# EAGLE library part PL2303TA (library PL2303TA)
USB to Serial Bridge Controller Source: Datasheet <https://cdn-shop.adafruit.com/datasheets/DS_PL2303TA_d20120504.pdf>
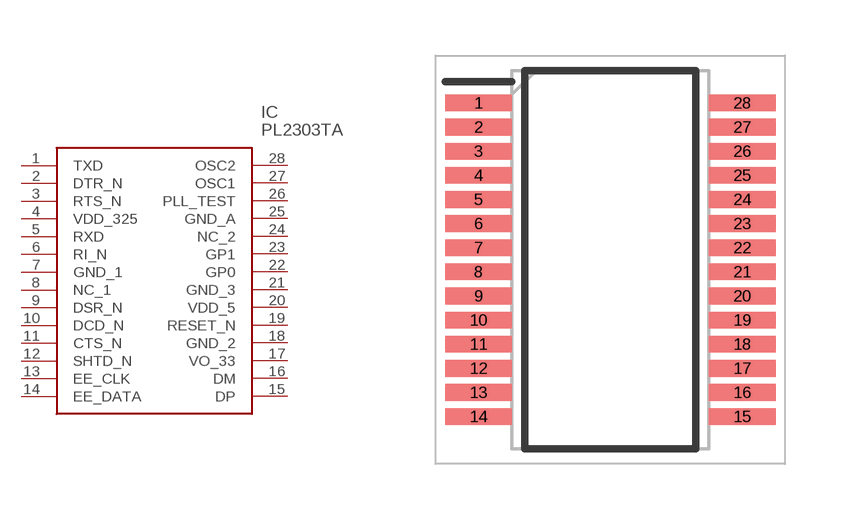
[diagram p0: symbol with the pads of SOP65P780X200-28N; footprint SOP65P780X200-28N]

Designator prefix IC

## PL2303TA (Description: USB to Serial Bridge Controller; Height: 2mm; Manufacturer_Name: Prolific; Manufacturer_Part_Number: PL2303TA)  [SOP65P780X200-28N]
1  TXD
2  DTR_N
3  RTS_N
4  VDD_325
5  RXD
6  RI_N
7  GND_1
8  NC_1
9  DSR_N
10  DCD_N
11  CTS_N
12  SHTD_N
13  EE_CLK
14  EE_DATA
15  DP
16  DM
17  VO_33
18  GND_2
19  RESET_N
20  VDD_5
21  GND_3
22  GP0
23  GP1
24  NC_2
25  GND_A
26  PLL_TEST
27  OSC1
28  OSC2

## Footprint SOP65P780X200-28N (pad centres in mm)
SSOP28
smd 1.8 x 0.45: 1 -3.55,4.225; 2 -3.55,3.575; 3 -3.55,2.925; 4 -3.55,2.275; 5 -3.55,1.625; 6 -3.55,0.975; 7 -3.55,0.325; 8 -3.55,-0.325; 9 -3.55,-0.975; 10 -3.55,-1.625; 11 -3.55,-2.275; 12 -3.55,-2.925; 13 -3.55,-3.575; 14 -3.55,-4.225; 15 3.55,-4.225; 16 3.55,-3.575; 17 3.55,-2.925; 18 3.55,-2.275; 19 3.55,-1.625; 20 3.55,-0.975; 21 3.55,-0.325; 22 3.55,0.325; 23 3.55,0.975; 24 3.55,1.625; 25 3.55,2.275; 26 3.55,2.925; 27 3.55,3.575; 28 3.55,4.225